# Altium schematic symbol library TTP233D-HA6.Schlib: 1 symbol
Pins are listed as number, name and electrical type; pins without a type are passive.

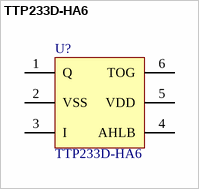
[diagram p0: symbol TTP233D-HA6]

## TTP233D-HA6
designator U?
IC_TOUCHDETECTOR_SOT23-6_1V4-5V5_3uA; LCSC: C80803; Status: To review; Datasheet: https://www.tontek.com.tw/uploads/product/120/TTP233D-HA6_V1.2_EN.pdf; Component Type: Integrated Circuits
pins: 1 Q, 2 VSS, 3 I, 4 AHLB, 5 VDD, 6 TOG